# Altium schematic symbol library lib_ic_TRAN.SchLib: 4 symbols
Pins are listed as number, name and electrical type; pins without a type are passive.

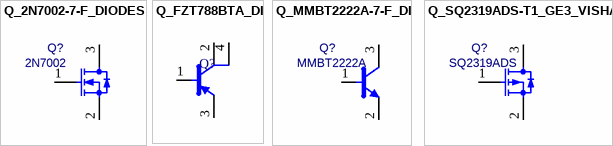
[diagram p0: symbols Q_2N7002-7-F_DIODES to Q_SQ2319ADS-T1_GE3_VISHAY]

## Q_2N7002-7-F_DIODES
designator Q?, comment 2N7002
MOSFET N-CH 60V 115MA SOT23-3; Manufacturer Part Number: 2N7002-FDICT-ND; Mouser Part Number: 621-2N7002-F; Digikey Part Number: 2N7002-7-F
footprint SOT23-3M (SOT23, 3-Leads, Body 2.9x1.3mm, Pitch 0.95mm, Lead Span 2.5mm, IPC Low Density)
pins: 1 G, 2 S, 3 D

## Q_FZT788BTA_DI
designator Q?  (value not drawn)
TRANS PNP 15V 3A SOT-223; Manufacturer: Diodes Incorporated; Manufacturer Part Number: FZT788BTA; Mouser Part Number: 522-FZT788BTA; Digikey Part Number: FZT788BCT-ND
footprint SOT230P700X163-4 (SOT223, 4-Leads, Body 6,50x7,00mm (avg), Pitch 2,30mm, IPC Medium Density)
pins: 1 B, 2 C, 3 E, 4 C

## Q_MMBT2222A-7-F_DI
designator Q?, comment MMBT2222A
TRANS NPN 40V 0.6A SMD SOT23-3; Manufacturer Part Number: MMBT2222A-FDICT-ND; Mouser Part Number: 621-MMBT2222A-F; Digikey Part Number: MMBT2222A-7-F
footprint SOT23-3M (SOT23, 3-Leads, Body 2.9x1.3mm, Pitch 0.95mm, Lead Span 2.5mm, IPC Low Density)
pins: 1 B, 2 E, 3 C

## Q_SQ2319ADS-T1_GE3_VISHAY
designator Q?, comment SQ2319ADS
MOSFET P-CH 40V 4.6A SOT23-3; Manufacturer Part Number: SQ2319ADS-T1_GE3; Mouser Part Number: 78-SQ2319ADS-T1_GE3; Digikey Part Number: SQ2319ADS-T1_GE3CT-ND
footprint SOT23-3M (SOT23, 3-Leads, Body 2.9x1.3mm, Pitch 0.95mm, Lead Span 2.5mm, IPC Low Density)
pins: 1 G, 2 S, 3 D